# Altium footprint library YD10-48S05.PcbLib: 1 footprints
Each footprint in its own frame and in the unit in brackets; x right, y up, seen from the top. Pads: shape width x height; smd on the part's side, far side on the other; paste and mask are expansions set on the pad; w line width, h text height; cw(c..) or ccw(c..) is an arc to the next point about the centre after c.
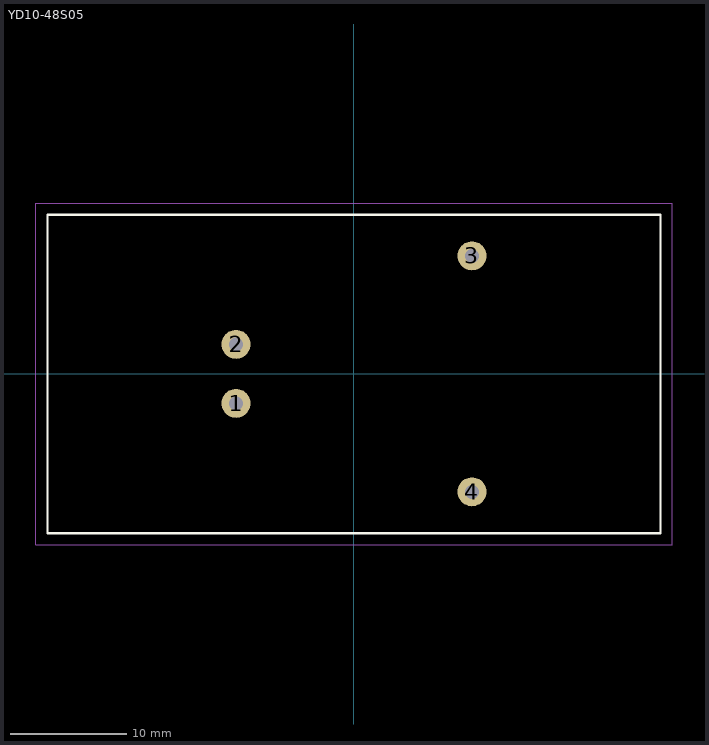
[diagram p0: the footprint, top view; thin cyan lines are the x and y axes]

## YD10-48S05 [mm]
pads (4):
  round 2.5 hole 1.2: 1(-10.16,-2.54) 2(-10.16,2.54) 3(10.16,10.16) 4(10.16,-10.16)
Top Overlay:
  lines w0.1: 9.09,-13.7 9.16,-13.7 ; 9.115,13.675 9.16,13.675
  lines w0.2: -26.4,-13.715 26.4,-13.715 26.4,13.685 -26.4,13.685 -26.4,-13.715
Top Courtyard:
  lines w0.1: -27.4,-14.715 -27.4,14.685 27.4,14.685 27.4,-14.715 -26.4,-14.715 -27.4,-14.715
3D body: height 8.5, standoff 0, extent -26.4,-13.715 26.4,13.685